# Altium schematic symbol library SCH - INDUCTOR - TDK B82477C6xxxM603.SCHLIB: 1 symbol
Pins are listed as number, name and electrical type; pins without a type are passive.

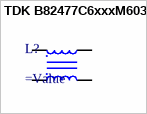
[diagram p0: symbol TDK B82477C6xxxM603]

## TDK B82477C6xxxM603
designator L?
SMT Inductor
pins: 1, 2, 3, 4